# EAGLE library part POCKETBEAGLE (library RCboat)
Pocketbeagle
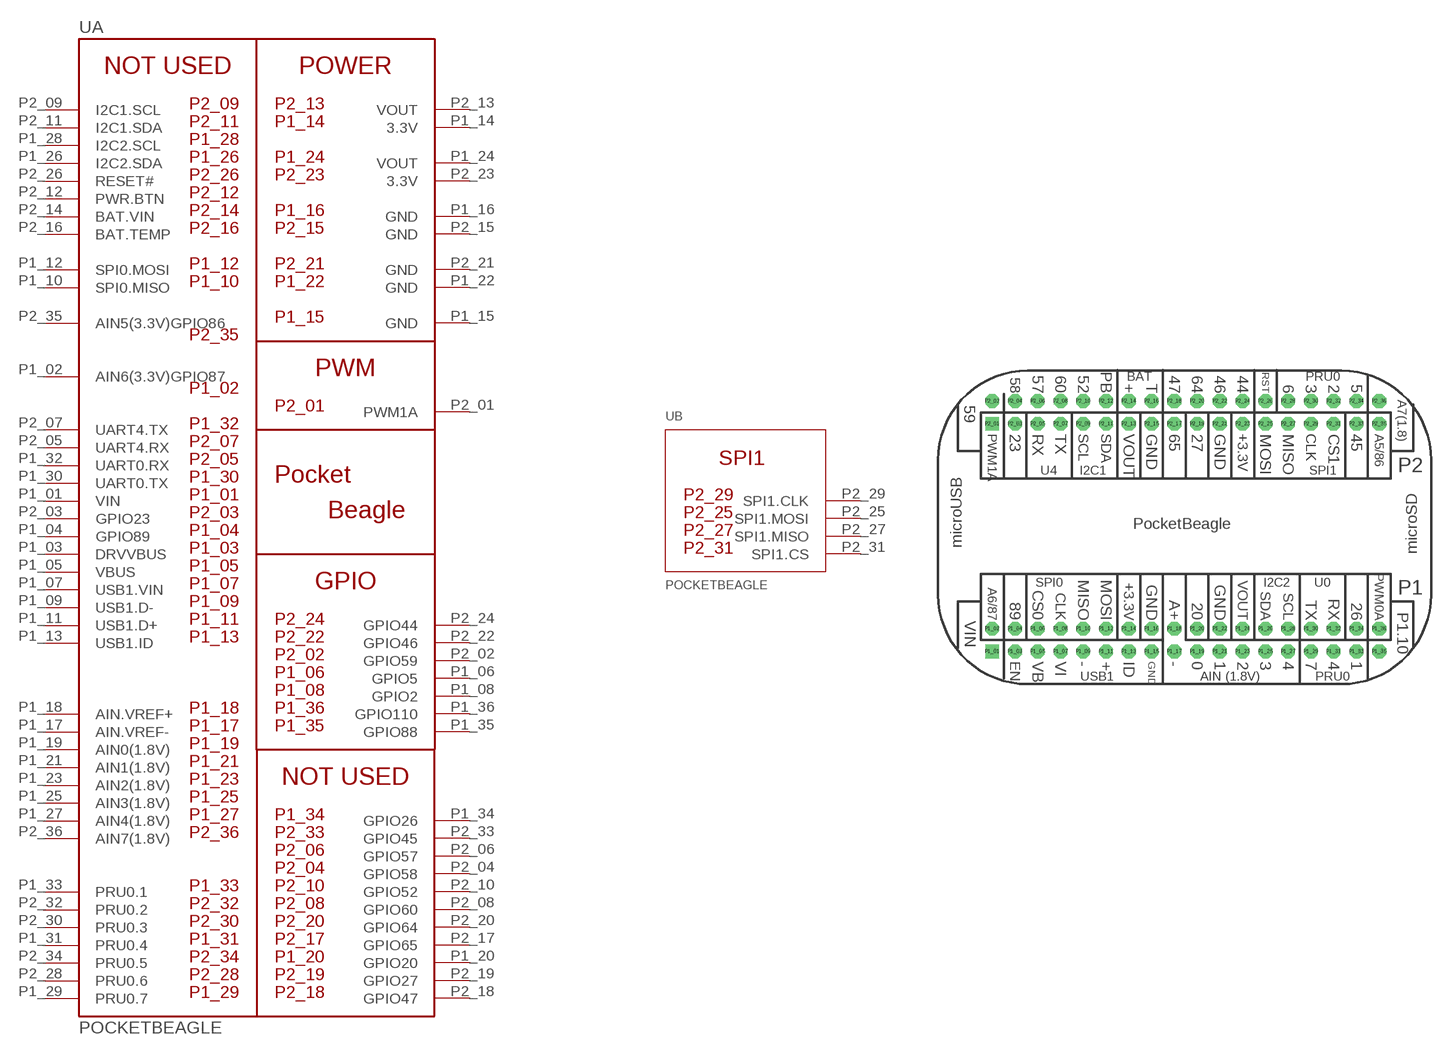
[diagram p1: symbol with the pads of POCKETBEAGLE; footprint POCKETBEAGLE]

Designator prefix U; gates A=POCKETBEAGLE B=POCETBEAGLE-SPI1

## POCKETBEAGLE  [POCKETBEAGLE]
P1_01  A:VIN  pwr
P1_02  A:AIN6(3.3V)GPIO87
P1_03  A:DRVVBUS
P1_04  A:GPIO89
P1_05  A:VBUS
P1_06  A:GPIO5
P1_07  A:USB1.VIN
P1_08  A:GPIO2
P1_09  A:USB1.D-
P1_10  A:SPI0.MISO
P1_11  A:USB1.D+
P1_12  A:SPI0.MOSI
P1_13  A:USB1.ID
P1_14  A:3.3V  pwr
P1_15  A:GND
P1_16  A:GND  pwr
P1_17  A:AIN.VREF-  in
P1_18  A:AIN.VREF+  in
P1_19  A:AIN0(1.8V)  in
P1_20  A:GPIO20
P1_21  A:AIN1(1.8V)  in
P1_22  A:GND  pwr
P1_23  A:AIN2(1.8V)  in
P1_24  A:VOUT  pwr
P1_25  A:AIN3(1.8V)  in
P1_26  A:I2C2.SDA
P1_27  A:AIN4(1.8V)  in
P1_28  A:I2C2.SCL
P1_29  A:PRU0.7
P1_30  A:UART0.TX
P1_31  A:PRU0.4
P1_32  A:UART0.RX
P1_33  A:PRU0.1
P1_34  A:GPIO26
P1_35  A:GPIO88
P1_36  A:GPIO110
P2_01  A:PWM1A
P2_02  A:GPIO59
P2_03  A:GPIO23
P2_04  A:GPIO58
P2_05  A:UART4.RX
P2_06  A:GPIO57
P2_07  A:UART4.TX
P2_08  A:GPIO60
P2_09  A:I2C1.SCL
P2_10  A:GPIO52
P2_11  A:I2C1.SDA
P2_12  A:PWR.BTN  in
P2_13  A:VOUT  pwr
P2_14  A:BAT.VIN  pwr
P2_15  A:GND  pwr
P2_16  A:BAT.TEMP  in
P2_17  A:GPIO65
P2_18  A:GPIO47
P2_19  A:GPIO27
P2_20  A:GPIO64
P2_21  A:GND  pwr
P2_22  A:GPIO46
P2_23  A:3.3V  pwr
P2_24  A:GPIO44
P2_25  B:SPI1.MOSI
P2_26  A:RESET#  in
P2_27  B:SPI1.MISO
P2_28  A:PRU0.6
P2_29  B:SPI1.CLK
P2_30  A:PRU0.3
P2_31  B:SPI1.CS
P2_32  A:PRU0.2
P2_33  A:GPIO45
P2_34  A:PRU0.5
P2_35  A:AIN5(3.3V)GPIO86
P2_36  A:AIN7(1.8V)  in

## Footprint POCKETBEAGLE (pad centres in mm)
drill 0.889 pad 1.524 square: P1_01 7.18,2.26; P2_01 7.18,27.66
drill 0.889 pad 1.524 octagon: P1_02 7.18,4.8; P1_03 9.72,2.26; P1_04 9.72,4.8; P1_05 12.26,2.26; P1_06 12.26,4.8; P1_07 14.8,2.26; P1_08 14.8,4.8; P1_09 17.34,2.26; P1_10 17.34,4.8; P1_11 19.88,2.26; P1_12 19.88,4.8; P1_13 22.42,2.26; P1_14 22.42,4.8; P1_15 24.96,2.26; P1_16 24.96,4.8; P1_17 27.5,2.26; P1_18 27.5,4.8; P1_19 30.04,2.26; P1_20 30.04,4.8; P1_21 32.58,2.26; P1_22 32.58,4.8; P1_23 35.12,2.26; P1_24 35.12,4.8; P1_25 37.66,2.26; P1_26 37.66,4.8; P1_27 40.2,2.26; P1_28 40.2,4.8; P1_29 42.74,2.26; P1_30 42.74,4.8; P1_31 45.28,2.26; P1_32 45.28,4.8; P1_33 47.82,2.26; P1_34 47.82,4.8; P1_35 50.36,2.26; P1_36 50.36,4.8; P2_02 7.18,30.2; P2_03 9.72,27.66; P2_04 9.72,30.2; P2_05 12.26,27.66; P2_06 12.26,30.2; P2_07 14.8,27.66; P2_08 14.8,30.2; P2_09 17.34,27.66; P2_10 17.34,30.2; P2_11 19.88,27.66; P2_12 19.88,30.2; P2_13 22.42,27.66; P2_14 22.42,30.2; P2_15 24.96,27.66; P2_16 24.96,30.2; P2_17 27.5,27.66; P2_18 27.5,30.2; P2_19 30.04,27.66; P2_20 30.04,30.2; P2_21 32.58,27.66; P2_22 32.58,30.2; P2_23 35.12,27.66; P2_24 35.12,30.2; P2_25 37.66,27.66; P2_26 37.66,30.2; P2_27 40.2,27.66; P2_28 40.2,30.2; P2_29 42.74,27.66; P2_30 42.74,30.2; P2_31 45.28,27.66; P2_32 45.28,30.2; P2_33 47.82,27.66; P2_34 47.82,30.2; P2_35 50.36,27.66; P2_36 50.36,30.2